# EAGLE library part PIC24FVXXKMX02 (library MCUs)
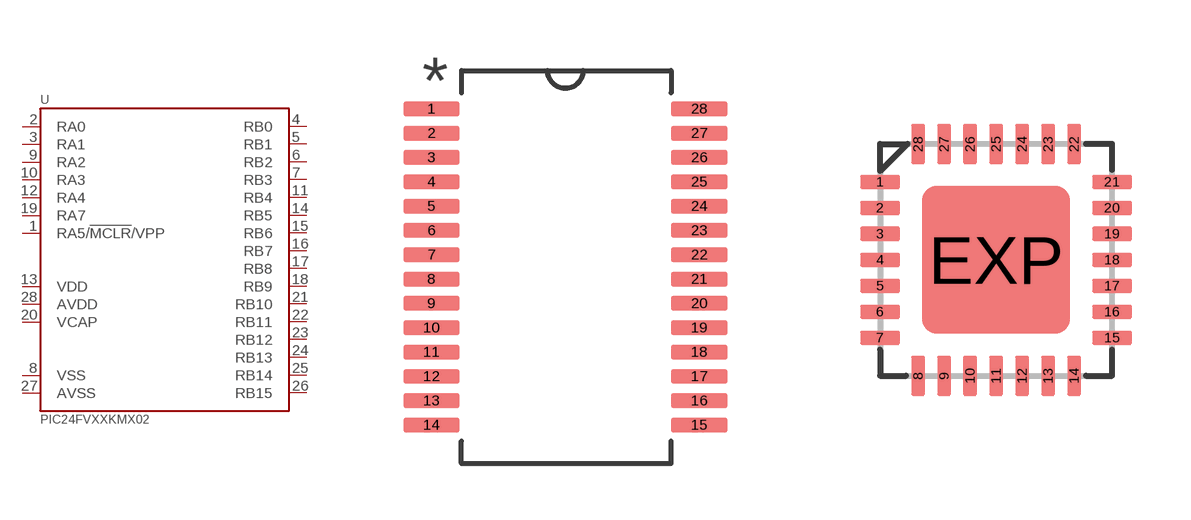
[diagram p6: symbol with the pads of SSOP-28; footprints SSOP-28, QFN-28]

Designator prefix U

## PIC24FVXXKMX02-X/SS  [SSOP-28]
1  RA5/!MCLR!/VPP
2  RA0
3  RA1
4  RB0
5  RB1
6  RB2
7  RB3
8  VSS  pas
9  RA2
10  RA3
11  RB4
12  RA4
13  VDD  pas
14  RB5
15  RB6
16  RB7
17  RB8
18  RB9
19  RA7
20  VCAP  pas
21  RB10
22  RB11
23  RB12
24  RB13
25  RB14
26  RB15
27  AVSS  pas
28  AVDD  pas

## PIC24FVXXKMX02-X/ML  [QFN-28]
1  RB0
2  RB1
3  RB2
4  RB3
5  VSS  pas
6  RA2
7  RA3
8  RB4
9  RA4
10  VDD  pas
11  RB5
12  RB6
13  RB7
14  RB8
15  RB9
16  RA7
17  VCAP  pas
18  RB10
19  RB11
20  RB12
21  RB13
22  RB14
23  RB15
24  AVSS  pas
25  AVDD  pas
26  RA5/!MCLR!/VPP
27  RA0
28  RA1
EXP  VSS  pas

## Footprint SSOP-28 (pad centres in mm)
smd 1.5 x 0.4: 1 -3.6,4.225; 2 -3.6,3.575; 3 -3.6,2.925; 4 -3.6,2.275; 5 -3.6,1.625; 6 -3.6,0.975; 7 -3.6,0.325; 8 -3.6,-0.325; 9 -3.6,-0.975; 10 -3.6,-1.625; 11 -3.6,-2.275; 12 -3.6,-2.925; 13 -3.6,-3.575; 14 -3.6,-4.225; 15 3.55,-4.225; 16 3.55,-3.575; 17 3.55,-2.925; 18 3.55,-2.275; 19 3.55,-1.625; 20 3.55,-0.975; 21 3.55,-0.325; 22 3.55,0.325; 23 3.55,0.975; 24 3.55,1.625; 25 3.55,2.275; 26 3.55,2.925; 27 3.55,3.575; 28 3.55,4.225

## Footprint QFN-28 (pad centres in mm)
smd 1 x 0.35: 1 -2.9,1.95; 2 -2.9,1.3; 3 -2.9,0.65; 4 -2.9,0; 5 -2.9,-0.65; 6 -2.9,-1.3; 7 -2.9,-1.95; 15 2.9,-1.95; 16 2.9,-1.3; 17 2.9,-0.65; 18 2.9,0; 19 2.9,0.65; 20 2.9,1.3; 21 2.9,1.95
smd 0.35 x 1: 8 -1.95,-2.9; 9 -1.3,-2.9; 10 -0.65,-2.9; 11 0,-2.9; 12 0.65,-2.9; 13 1.3,-2.9; 14 1.95,-2.9; 22 1.95,2.9; 23 1.3,2.9; 24 0.65,2.9; 25 0,2.9; 26 -0.65,2.9; 27 -1.3,2.9; 28 -1.95,2.9
smd 3.7 x 3.7: EXP 0,0